# Altium schematic symbol library P160KNPD-4FC20B10K.SchLib: 1 symbol
Pins are listed as number, name and electrical type; pins without a type are passive.

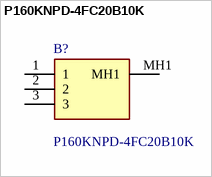
[diagram p0: symbol P160KNPD-4FC20B10K]

## P160KNPD-4FC20B10K
designator B?
TT ELECTRONICS / BI TECHNOLOGIES - P160KNPD-4FC20B10K - ROTARY POTENTIOMETER, 10KOHM, 20%; Geometry.Height: 9.5mm; Manufacturer_Name: TT Electronics; Manufacturer_Part_Number: P160KNPD-4FC20B10K; Mouser Part Number: 858-P160KNP4FC20B10K; Mouser Price/Stock: https://www.mouser.co.uk/ProductDetail/BI-Technologies-TT-Electronics/P160KNPD-4FC20B10K?qs=%252BUYXD5bnyXo7nCLwbZeBWQ%3D%3D; Arrow Part Number: *; Arrow Price/Stock: *; Datasheet Link: https://componentsearchengine.com/Datasheets/1/P160KNPD-4FC20B10K.pdf
footprint P160KNPD4FC20B10K
pins: 1, 2, 3, MH1